# EAGLE library part MCP48*2 (library jhbruhn-dac)
MCP48X2 - dual channel, 8/10/12bit DAC, SPI interface, internal reference
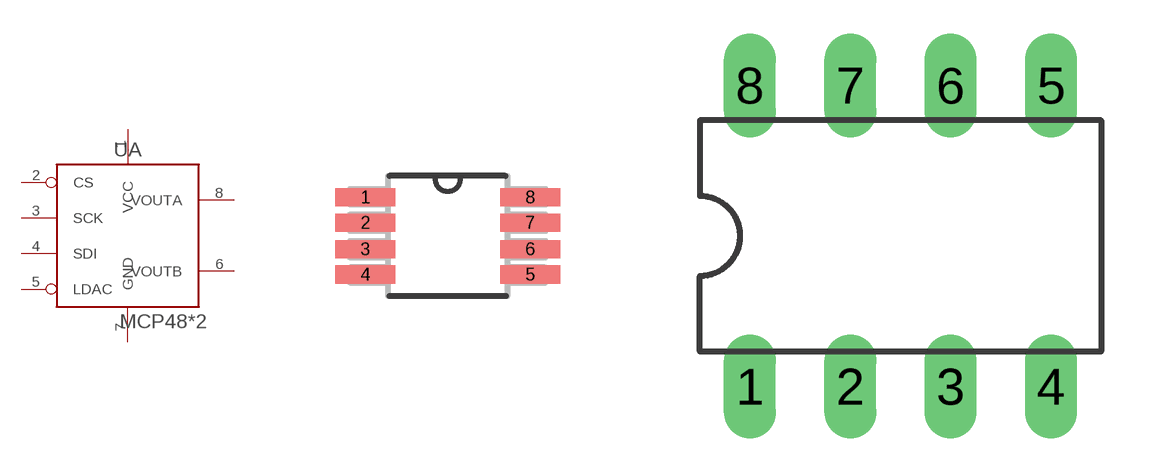
[diagram p1: symbol with the pads of MSOP-8; footprints MSOP-8, DIL08]

Designator prefix U; gates A=MCP48X2 P=PWRGND

## MCP4802E-MS, MCP4812E-MS, MCP4822E-MS  [MSOP-8]
1  P:VCC  pwr
2  A:CS  in
3  A:SCK  in
4  A:SDI  in
5  A:LDAC  in
6  A:VOUTB  out
7  P:GND  pwr
8  A:VOUTA  out

## MCP4802E-P, MCP4812E-P, MCP4822E-P  [DIL08]
Pads as for MSOP-8

## MCP4802E-SN, MCP4812E-SN, MCP4822E-SN  [SOIC8]
Pads as for MSOP-8

## Footprint MSOP-8 (pad centres in mm)
smd 1.499 x 0.457: 1 -2.057,0.965; 2 -2.057,0.33; 3 -2.057,-0.33; 4 -2.057,-0.965; 5 2.057,-0.965; 6 2.057,-0.33; 7 2.057,0.33; 8 2.057,0.965

## Footprint DIL08 (pad centres in mm)
Dual In Line Package
drill 0.813 long: 1 -3.81,-3.81; 2 -1.27,-3.81; 3 1.27,-3.81; 4 3.81,-3.81; 5 3.81,3.81; 6 1.27,3.81; 7 -1.27,3.81; 8 -3.81,3.81

## Footprint SOIC8 (pad centres in mm)
Small Outline IC
smd 0.6 x 2.2: 1 -1.905,-2.6; 2 -0.635,-2.6; 3 0.635,-2.6; 4 1.905,-2.6; 5 1.905,2.6; 6 0.635,2.6; 7 -0.635,2.6; 8 -1.905,2.6